# Altium schematic symbol library Monitait_V2.SCHLIB: 49 symbols
Pins are listed as number, name and electrical type; pins without a type are passive.

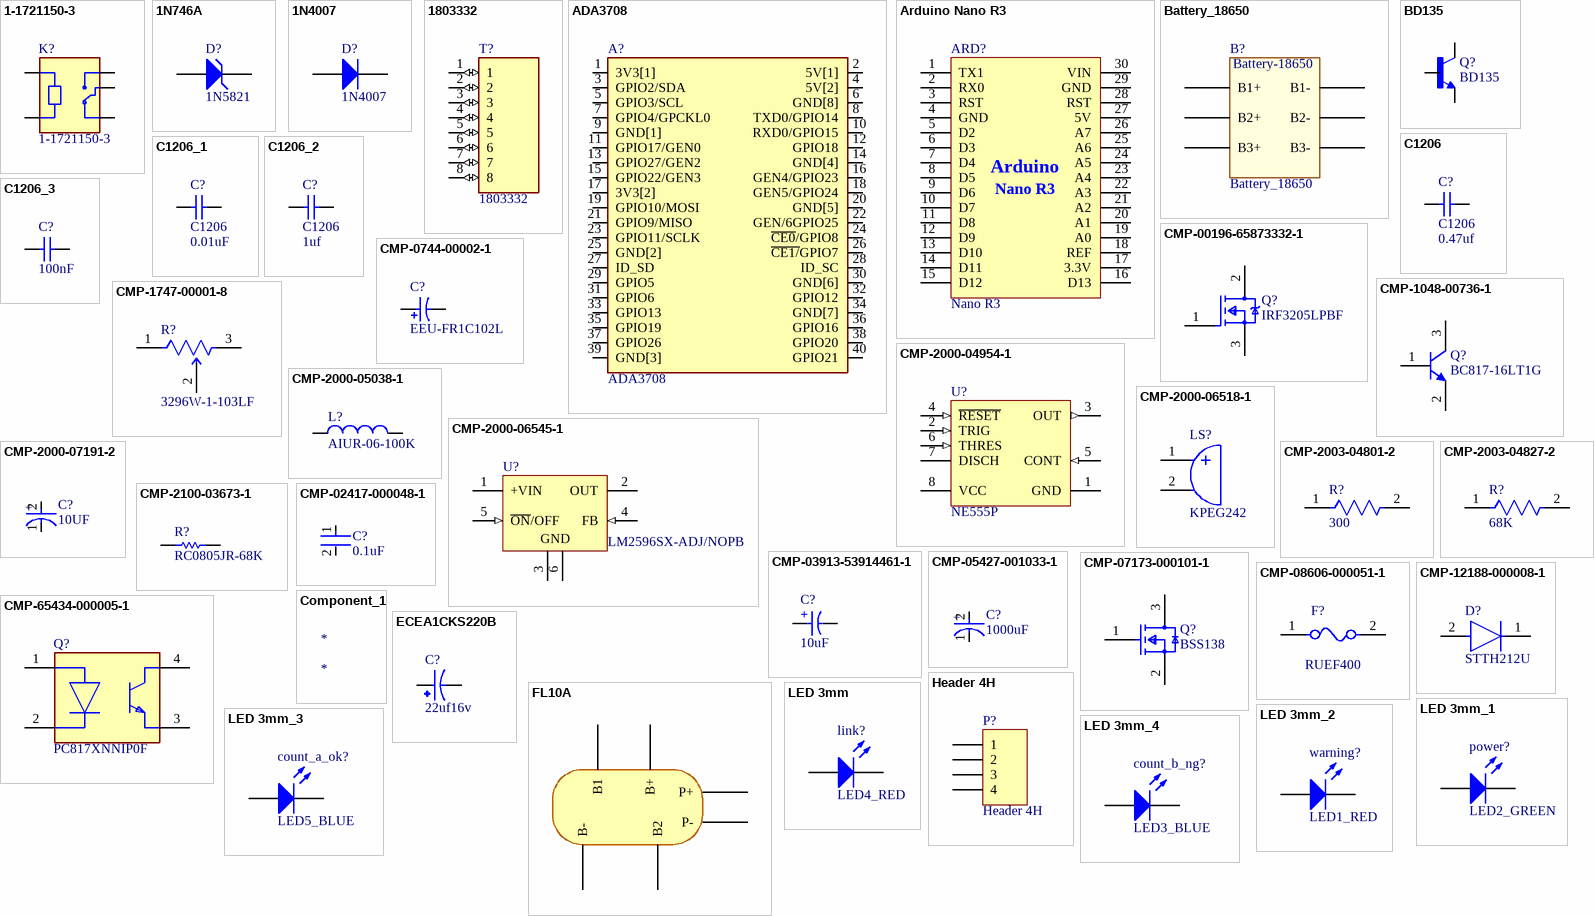
[diagram p0: symbols 1-1721150-3 to LED 3mm_4]

## 1-1721150-3
designator K?
ORWH Series Miniature PCB Relay with Wash Tight 1-Pole 1-Form C 1 CO 12 VDC 400 Ohm 360 mW Silver Zinc Oxide; Package: None; Availability: Unavailable; Value: *; MP: 1-1721150-3; Price: None
footprint RELAY_1-1721150-3
pins: A1, A2, COM, NC, NO

## 1N746A
designator D?, comment 1N5821
500 mW Hermetically Sealed Glass Silicon Zener Diode; Published: 29-Sep-2000; LatestRevisionDate: 17-Jul-2002; LatestRevisionNote: Re-released for DXP Platform.; PackageReference: 299-02; Publisher: Altium Limited; PackageDescription: Diode, Axial; Body 5.1 x 2.3 mm (LxDia. max), Lead Dia. 0.56 mm (max); Code_JEDEC: DO-204-AH; ComponentLink1Description: Manufacturer Link; ComponentLink1URL: http://www.onsemi.com/site/products/landing?taxonomyID=194
footprint 299-02 (Diode, Axial; Body 5.1 x 2.3 mm (LxDia. max), Lead Dia. 0.56 mm (max))
simulation model 1N746 (DIODE)
signal-integrity model 1N746A
pins: 1 A, 2 K

## 1N4007
designator D?
1 Amp Diode
footprint My_DO-41
pins: A, K

## 1803332
designator T?
8 Position Terminal Block Header, Male Pins, Shrouded (4 Side) 0.150 (3.81mm) 90Â°, Right Angle - Through Hole; MF: Phoenix Contact; Package: None; Price: None; Check_prices: https://www.snapeda.com/parts/1803332/Phoenix+Contact/view-part/?ref=eda; Value: *; SnapEDA_Link: https://www.snapeda.com/parts/1803332/Phoenix+Contact/view-part/?ref=snap; MP: 1803332; Availability: In Stock; Purchase-URL: https://pricing.snapeda.com/search?q=1803332&ref=eda
footprint SHDRRA8W83P0X381_1X8_3187X920X
pins: 1 (io), 2 (io), 3 (io), 4 (io), 5 (io), 6 (io), 7 (io), 8 (io)

## ADA3708
designator A?
Raspberry Pi Zero WH (Zero W with Headers); MP: ADA3708; Availability: Unavailable; Package: None; Value: *; Price: None
footprint ADA3708_RPI-ZERO
pins: 1 3V3[1] (power), 2 5V[1] (power), 3 GPIO2/SDA (io), 4 5V[2] (power), 5 GPIO3/SCL (io), 6 GND[8] (power), 7 GPIO4/GPCKL0 (io), 8 TXD0/GPIO14 (io), 9 GND[1] (power), 10 RXD0/GPIO15 (io), 11 GPIO17/GEN0 (io), 12 GPIO18 (io), 13 GPIO27/GEN2 (io), 14 GND[4] (power), 15 GPIO22/GEN3 (io), 16 GEN4/GPIO23 (io), 17 3V3[2] (power), 18 GEN5/GPIO24 (io), 19 GPIO10/MOSI (io), 20 GND[5] (power), 21 GPIO9/MISO (io), 22 GEN/6GPIO25 (io), 23 GPIO11/SCLK (io), 24 ~{CE0}/GPIO8 (io), 25 GND[2] (power), 26 ~{CE1/}GPIO7 (io), 27 ID_SD (io), 28 ID_SC (io), 29 GPIO5 (io), 30 GND[6] (power), 31 GPIO6 (io), 32 GPIO12 (io), 33 GPIO13 (io), 34 GND[7] (power), 35 GPIO19 (io), 36 GPIO16 (io), 37 GPIO26 (io), 38 GPIO20 (io), 39 GND[3] (power), 40 GPIO21 (io)

## Arduino Nano R3
designator ARD?, comment Nano R3
Arduino Nano R3
footprint Arduino_Nano_R3 (Arduino Nano R3, 30-Leads, Row Spacing 15.24mm, Pitch 2.54mm)
pins: 1 TX1, 2 RX0, 3 RST, 4 GND (power), 5 D2, 6 D3, 7 D4, 8 D5, 9 D6, 10 D7, 11 D8, 12 D9, 13 D10, 14 D11, 15 D12, 16 D13, 17 3.3V (power), 18 REF, 19 A0, 20 A1, 21 A2, 22 A3, 23 A4, 24 A5, 25 A6, 26 A7, 27 5V (power), 28 RST, 29 GND (power), 30 VIN (power)
text: Arduino

## Battery_18650
designator B?
footprint Battery-18650
pins: B1+, B1-, B2+, B2-, B3+, B3-
text: Battery-18650

## BD135
designator Q?
TRANSISTOR, NPN, TO-126; Transistor Polarity:NPN; Collector Emitter Voltage V(br)ceo:45V; Power Dissipation Pd:12.5W; DC Collector Current:1A; DC Current Gain hFE:40; Transistor Case Style:TO-126; No. of Pins:3; SVHC:No SVHC (18-Jun-2012); Collector Emitter Voltage Vces:500mV; Continuous Collector Current Ic Max:1A; Current Ic Continuous a Max:1A; Current Ic hFE:150mA; Full Power Rating Temperature:25Â°C; Hfe Min:40; No. of Transistors:1; Package / Case:TO-126; Power Dissipation Pd:12.5W; Power Dissipation Ptot Max:12.5W; Termination Type:Through Hole; Voltage Vcbo:45V; MF: ON Semiconductor; Availability: In Stock; SnapEDA_Link: https://www.snapeda.com/parts/BD135/Onsemi/view-part/?ref=snap; Price: None; Check_prices: https://www.snapeda.com/parts/BD135/Onsemi/view-part/?ref=eda; Package: TO-225-3 ON Semiconductor; MP: BD135; Value: *; Purchase-URL: https://pricing.snapeda.com/search/part/BD135/?ref=eda
footprint TO229P780X300X2000-3
pins: 1 E, 2 C, 3 B

## C1206
designator C?  value 0.47uf
Ceramic Chip Capacitor - Standard; Published: 17-Jul-2002; LatestRevisionDate: 19-Mar-2004; LatestRevisionNote: Silkscreen size reduced.; DatasheetDocument: Mar-2001; PackageDocument: Mar-2001; PackageReference: 1206; Publisher: Altium Limited; Code_JEITA: 1206; Code_IPC: 3216 [1206]; ComponentLink1Description: Manufacturer Link; ComponentLink1URL: http://www.kemet.com/; ComponentLink2Description: Datasheet; ComponentLink2URL: http://www.kemet.com/kemet/web/homepage/kechome.nsf/vapubfilesname/F3102TA.pdf/$file/F3102TA.pdf
footprint 1206 (Chip Capacitor; Body 3.2 x 1.6 mm (LxW typ))
simulation model CAP (Capacitor)
signal-integrity model C1206
pins: 1, 2

## C1206_1
designator C?, comment C1206  value 0.01uF
Ceramic Chip Capacitor - Standard; Published: 17-Jul-2002; LatestRevisionDate: 19-Mar-2004; LatestRevisionNote: Silkscreen size reduced.; DatasheetDocument: Mar-2001; PackageDocument: Mar-2001; PackageReference: 1206; Publisher: Altium Limited; Code_JEITA: 1206; Code_IPC: 3216 [1206]; ComponentLink1Description: Manufacturer Link; ComponentLink1URL: http://www.kemet.com/; ComponentLink2Description: Datasheet; ComponentLink2URL: http://www.kemet.com/kemet/web/homepage/kechome.nsf/vapubfilesname/F3102TA.pdf/$file/F3102TA.pdf
footprint 1206 (Chip Capacitor; Body 3.2 x 1.6 mm (LxW typ))
simulation model CAP (Capacitor)
signal-integrity model C1206
pins: 1, 2

## C1206_2
designator C?, comment C1206  value 1uf
Ceramic Chip Capacitor - Standard; Published: 17-Jul-2002; LatestRevisionDate: 19-Mar-2004; LatestRevisionNote: Silkscreen size reduced.; DatasheetDocument: Mar-2001; PackageDocument: Mar-2001; PackageReference: 1206; Publisher: Altium Limited; Code_JEITA: 1206; Code_IPC: 3216 [1206]; ComponentLink1Description: Manufacturer Link; ComponentLink1URL: http://www.kemet.com/; ComponentLink2Description: Datasheet; ComponentLink2URL: http://www.kemet.com/kemet/web/homepage/kechome.nsf/vapubfilesname/F3102TA.pdf/$file/F3102TA.pdf
footprint 1206 (Chip Capacitor; Body 3.2 x 1.6 mm (LxW typ))
simulation model CAP (Capacitor)
signal-integrity model C1206
pins: 1, 2

## C1206_3
designator C?, comment value 100nF  (hidden comment: C1206)
Ceramic Chip Capacitor - Standard; Published: 17-Jul-2002; LatestRevisionDate: 19-Mar-2004; LatestRevisionNote: Silkscreen size reduced.; DatasheetDocument: Mar-2001; PackageDocument: Mar-2001; PackageReference: 1206; Publisher: Altium Limited; Code_JEITA: 1206; Code_IPC: 3216 [1206]; ComponentLink1Description: Manufacturer Link; ComponentLink1URL: http://www.kemet.com/; ComponentLink2Description: Datasheet; ComponentLink2URL: http://www.kemet.com/kemet/web/homepage/kechome.nsf/vapubfilesname/F3102TA.pdf/$file/F3102TA.pdf
footprint 1206 (Chip Capacitor; Body 3.2 x 1.6 mm (LxW typ))
simulation model CAP (Capacitor)
signal-integrity model C1206
pins: 1, 2

## CMP-00196-65873332-1
designator Q?, comment IRF3205LPBF
IRF3205LPBF 55V Single N-Channel HEXFET Power MOSFET in a TO-262 package, TO262-3, RoHS; NexarPartId: 65873332; Manufacturer: Infineon; Max Junction Temperature (Tj): 175°C; Rise Time: 101ns; Threshold Voltage: 4V; Fall Time: 65ns; On-State Resistance: 8mΩ; Input Capacitance: 3.247nF; Max Power Dissipation: 200W; Turn-Off Delay Time: 50ns; Continuous Drain Current (ID): 110A; Turn-On Delay Time: 14ns; Gate to Source Voltage (Vgs): 20V; Number of Elements: 1; Width: 4.826mm; Length: 10.668mm; RoHS: Compliant; Max Operating Temperature: 175°C; Min Operating Temperature: -55°C; Package Quantity: 1000; Number of Pins: 3; Lifecycle Status: Production; Drain to Source Breakdown Voltage: 55V; Current Rating: 110A; Packaging: Bulk; Voltage Rating (DC): 55V; Height: 9.65mm; Radiation Hardening: No; Mount: Through Hole; Drain to Source Resistance: 8mΩ; Case/Package: TO-262; Lead Free: Contains Lead, Lead Free; Rds On Max: 8mΩ; REACH SVHC: No SVHC; Power Dissipation: 200W; Drain to Source Voltage (Vdss): 55V; Schedule B: 8541290080, 8541290080; Manufacturer Part Number: IRF3205LPBF
footprint FP-PG-TO262-3-MFG (Single N-Channel 100 V 23 mOhm 130 nC HEXFET® Power Mosfet - TO-262)
pins: 1 G, 2 D, 3 S

## CMP-0744-00002-1
designator C?, comment EEU-FR1C102L
Aluminum Electrolytic Capacitor, 1000 uF +/- 20%, 16 V, -40 to 105 degC, 2-Pin THD, Dia 8 mm, Body Length 22 mm, RoHS; Manufacturer: Panasonic; Rated Voltage: 16 V; Resistance: 0.03 Ohm; Tolerance: +/- 20%; Rated Ripple Current: 1560 mA; Capacitance: 1000 uF; ComponentLink2URL: http://www.panasonic.com/industrial/includes/pdf/EEU-FR_DataSheet.pdf; DatasheetVersion: Apr-10; Temperature Range: -40 to 105 degC; ComponentLink1Description: Manufacturer URL; ComponentLink1URL: http://www.panasonic.com/industrial/electronic-components/; PartNumber: EEU-FR1C102L; PackageDescription: 2-Pin Radial Lead, Dia 8 mm, Body Length 22 mm, Pin Spacing 3.5 mm; PackageReference: FR-A-8X20-2; Mounting Technology: Through Hole; RoHS: TRUE; ComponentLink2Description: Datasheet; Manufacturer Part Number: EEU-FR1C102L
footprint PNSC-FR-A-8X20-2_V (Radial Lead, 2-Leads, Dia 8mm, Body Length 22mm, Pin Spacing 3.5mm)
pins: 1, 2

## CMP-1048-00736-1
designator Q?, comment BC817-16LT1G
General Purpose Transistor, NPN Silicon, 3-Pin SOT-23, Pb-Free, Tape and Reel; Manufacturer: On Semiconductor; IC Continuous (A): 0.5; fT Min (MHz): 100; PartNumber: BC817-16LT1G; Mounting Technology: Surface Mount; PackageVersion: Rev. AP, 11/2009; ComponentLink3Description: Package Specification; PackageReference: SOT-23-3-318-08; Packing: Tape and Reel; ComponentLink1URL: http://www.onsemi.com/; Polarity: NPN; RoHS: TRUE; ComponentLink2URL: http://www.onsemi.com/pub_link/Collateral/BC817-16LT1-D.PDF; ComponentLink3URL: http://www.onsemi.cn/pub_link/Collateral/318-08.PDF; ComponentLink2Description: Datasheet; PackageDescription: 3-Pin Small Outline Transistor, Body 2.92 x 1.3 mm, Pitch 0.95 mm; ComponentLink1Description: Manufacturer URL; DatasheetVersion: Rev. 12; Manufacturer: ON Semiconductor; Manufacturer Part Number: BC817-16LT1G
footprint ONSC-SOT-23-3-318-08_V (SOT23, 3-Leads, Body 2.92x1.3mm, Pitch 0.95mm)
pins: 1 B, 2 E, 3 C

## CMP-1747-00001-8
designator R?, comment 3296W-1-103LF
TRIMMER 10K OHM 0.5W PC PIN TOP; Manufacturer: Bourns; Number of Turns: 25; Tolerance: 10%; Resistance: 10kR; Max Power Dissipation: 500mW; Temperature Coefficient: 100ppm/°C; Insulation Resistance: 1GR; Min Operating Temperature: -55°C; Resistor Type: Cermet; Series: 3296; Color: Blue; Mount: Through Hole; Taper: Linear; Radiation Hardening: No; RoHS Compliant: Yes; Width: 9.53mm; Resistance Tolerance: 10%; Contact Plating: Tin; Military Standard: Not; Package Quantity: 50; Weight: 0.03oz; Lead Free: Lead Free; Power Rating: 500mW; Termination: Pin; Technology: CERMET; Max Operating Temperature: 125°C; Packaging: Rail/Tube; Length: 9.53mm; Depth: 4.83mm; Height: 11.55mm; Reach SVHC Compliant: Yes; Manufacturer Part Number: 3296W-1-103LF
footprint FP-3296W-MFG
pins: 1 CCW, 2 WIPER, 3 CW

## CMP-2000-04954-1
designator U?, comment NE555P
Precision Timer, 4.5 to 16 V, 0 to 70 degC, 8-Pin DIP, Pb-Free, Tube; Manufacturer: TexasInstruments; Manufacturer: Texas Instruments; Maximum High Level Output Current: -200mA; Number of Internal Timers: 1; Operating Supply Voltage: 5; Maximum Low Level Output Current: 200mA; Rad Hard: No; Packaging: Rail/Tube; Manufacturer URL: http://www.ti.com/; Package Reference: P8; Package Description: 8-Pin Double In-line Package, Body 9.59 x 6.35 mm, Pitch 2.54 mm; Package URL: http://www.ti.com/lit/ml/mpdi001b/mpdi001b.pdf; Type: Standard; Datasheet URL: http://www.ti.com/general/docs/lit/getliterature.tsp?genericPartNumber=NE555&fileType=pdf; Category: Timer; Package: 8PDIP; Datasheet Version: Rev. I, 09/2014; Manufacturer Part Number: NE555P
footprint P0008A (DIP, 8-Leads, Body 10.15x6.6mm, Pitch 2.54mm)
pins: 1 GND (power), 2 TRIG (in), 3 OUT (out), 4 ~{RESET} (in), 5 CONT (in), 6 THRES (in), 7 DISCH (oc), 8 VCC (power)

## CMP-2000-05038-1
designator L?, comment AIUR-06-100K
Fixed Inductor, 10 uH, +/- 10%, -40 to 85 degC, 2-Pin THD, RoHS, Bulk; Manufacturer: ABRACON; Case Length: 18mm; Type: ThruHolePowerInductor; Inductance: 10uH; Case Diameter: 12.7mm; Maximum DC Resistance: 0.031Ohms; Core Material: Ferrite; Shielding: Unshielded; Maximum DC Current: 8.8A; Lead Diameter: 0.81mm; Package / Case: 12.7mmx18mm; Packaging: Bulk; Series: AIUR-06; Package Reference: AIUR-06; RoHS: Details; Tolerance: 10%; Product: PowerInductors; Manufacturer URL: http://www.abracon.com/; Package Description: 2-Pin Through Hole Device, Dia 12.7 mm, Pitch 7.37 mm; Factory Pack Quantity: 250; Product Category: FixedInductors; Datasheet URL: http://www.abracon.com/Magnetics/radial/AIUR05-06.pdf; Brand: ABRACON; Operating Temperature Range: -40Cto+125C; Lead Spacing: 7.37mm; Termination Style: Radial; Datasheet Version: Rev. 1.1, 08/2004; Manufacturer: Abracon; Manufacturer Part Number: AIUR-06-100K
footprint ABRA-AIUR-06-2_V (Through Hole, 2-Leads, Dia 12.7mm)
pins: 1, 2

## CMP-2000-06518-1
designator LS?, comment KPEG242
Piezo Indicator, 4100 Hz, 3 to 16 V, -20 to 70 degC, 2-Pin THD, RoHS; PartNumber: KPE-242; Manufacturer: KingstateElectronicsCorp.; Manufacturer: Kingstate; Frequency Range: 3600to4600Hz; Maximum Supply Current: 7mA; Typical Operating Supply Voltage: 12Vdc; Product Height: 7.6mm; Current - Max: 7A; Tone Mode: Continuous; Product Diameter: 13.7mm; Minimum Sound Pressure: 70dBA; Maximum Resonant Frequency: 4600Hz; Type: Indicator; Datasheet URL: https://datasheet.ciiva.com/11776/0900766b8068f3a2-11776713.pdf; Mounting: ThroughHole; Technology: Piezo; Operating Temperature: -20to70°C; Category: AudioIndicatorsandAlerts; Termination Method: Pin; Manufacturer URL: http://www.kingstate.com.tw/index.php/en/; Package Description: 2-Pin Through Hole Device, Body Dia 13.7 mm, Pitch 7.62 mm; Datasheet Version: 01/2006; Package Reference: KPEG242; Mounting Technology: ThroughHole; Manufacturer Part Number: KPEG242
footprint KINGS-KPEG242-2 (THD, 2-Leads, Dia 13.7mm, Pitch 7.62mm)
pins: 1, 2

## CMP-2000-06545-1
designator U?, comment LM2596SX-ADJ/NOPB
Simple Switcher(R) Power Converter 150 kHz Step-Down Voltage Regulator, 3 A, 4.5 to 40 V, -40 to 125 degC, 5-Pin TO-263 (KTT), Green (RoHS & no Sb/Br), Tape and Reel; PartNumber: LM2596; Manufacturer: Texas Instruments; Manufacturer: TI National Semiconductor; Package Version: 4200577-4/G, 01/2013; Primary Input Voltage: 40V; No. of Outputs: 1; No. of Pins: 5; SVHC: NoSVHC(19-Dec-2012); Output Voltage: 37V; Output Current: 3A; Datasheet Version: Rev. C, 04/2013; Package Reference: KTT5; MSL: MSL3-168hours; Number of Outputs: 1; Operating Temperature Min: -40°C; Operating Temperature Range: -40°Cto+125°C; Manufacturer URL: http://www.ti.com/; Package URL: http://www.ti.com/litv/pdf/mpsf007e; Voltage Regulator Case Style: TO-263; Operating Temperature Max: 125°C; Package Description: 5-Pin Plastic Flange Mount, Body 10.16 x 8.925 mm, Pitch 1.7 mm; Datasheet URL: http://www.ti.com/lit/ds/symlink/lm2596.pdf; Mounting Technology: SurfaceMount; Manufacturer Part Number: LM2596SX-ADJ/NOPB
footprint KTT0005B_L (DPAK, 5-Leads, Body 10.65x9.65mm, Pitch 1.7mm, IPC High Density)
footprint KTT0005B_M (DPAK, 5-Leads, Body 10.65x9.65mm, Pitch 1.7mm, IPC Low Density)
footprint KTT0005B_N (DPAK, 5-Leads, Body 10.65x9.65mm, Pitch 1.7mm, IPC Medium Density)
pins: 1 +VIN (power) "This is the positive input supply for the IC switching regulator. A suitable input bypass +VIN capacitor must be present at this pin to minimize voltage transients and to supply the switching currents needed by the regulator.", 2 OUT (power) "Internal switch. The voltage at this pin switches between (+VIN - VSAT) and approximately -0.5V, with a duty cycle of approximately VOUT/VIN. To minimize coupling to sensitive circuitry, the PC board copper a(See Datasheet)", 3 GND (power) "Circuit ground.", 4 FB (in) "Senses the regulated output voltage to complete the feedback loop.", 5 ~{ON}/OFF (in) "Allows the switching regulator circuit to be shut down using logic level signals thus dropping the total input supply current to approximately 80 uA. Pulling this pin below a threshold voltage of approximately 1.3V turns the (See Datasheet)", 6 GND (power)

## CMP-2000-07191-2
designator C?, comment 10UF
CAP TANT 10UF 10% 20V 1411; Manufacturer: KEMET; Manufacturer Part Number: T491B106K020AT; Polarity: Polar; Life (Hours): 2000Hour; Dissipation Factor: 6%; Leakage Current: 2uA; Dielectric Material: Tantalum; Ripple Current: 201mA; ESR (Equivalent Series Resistance): 2.1R; Weight: 0.002293oz; Max Operating Temperature: 125°C; Failure Rate: 0.001%; Tolerance: 10%; Case Code (Metric): 3528; Case Code (Imperial): 1411; Number of Pins: 2; Case/Package: 1411; Width: 2.8mm; Height: 1.9mm; Voltage Rating: 20V; Voltage: 20V; Lead Free: Lead Free; Features: General Purpose; Radiation Hardening: No; Min Operating Temperature: -55°C; Length: 3.5mm; Mount: Surface Mount; Depth: 2.8mm; Voltage Rating (DC): 20V; Termination: SMD/SMT; Package Quantity: 1; Capacitance: 10uF; Packaging: Tape and Reel; RoHS Compliant: Yes; REACH SVHC: No SVHC; Height - Seated (Max): 0.083inch
footprint FP-T491B106K020AT-MFG
pins: 1 C, 2 A
text: +

## CMP-2003-04801-2
designator R?, comment 300
RES Thick Film, 100Ω, 1%, 0.25W, 100ppm/°C, 1206; Manufacturer: Vishay Dale; Manufacturer Part Number: CRCW1206100RFKEA; Voltage Rating (DC): 200V; Resistance: 100R; Power Rating: 250mW; Case Code (Metric): 3216; Radiation Hardening: No; Height: 0.55mm; Packaging: Tape and Reel; Depth: 1.6mm; Weight: 0.000353oz; Termination: SMD/SMT; Lead Free: Lead Free; Min Operating Temperature: -55°C; Contact Plating: Tin; Max Operating Temperature: 155°C; Case Code (Imperial): 1206; Military Standard: Not; Width: 1.6mm; Number of Pins: 2; Voltage Rating: 200V; Composition: Thick Film; Package Quantity: 5000; Tolerance: 1%; Case/Package: 1206; Mount: Surface Mount; Length: 3.2mm; Temperature Coefficient: 100ppm/°C
footprint FP-CRCW1206-e3-MFG
footprint FP-CRCW1206-e3-IPC_C
footprint FP-CRCW1206-e3-IPC_B
footprint FP-CRCW1206-e3-IPC_A
pins: 1, 2

## CMP-2003-04827-2
designator R?, comment 68K
RES Thick Film, 118kΩ, 1%, 0.25W, 100ppm/°C, 1206; Manufacturer: Vishay; Manufacturer Part Number: CRCW1206118KFKEA; Resistance: 118kR; Max Power Dissipation: 250mW; Voltage Rating: 200V; Number of Pins: 2; Radiation Hardening: No; Tolerance: 1%; Case Code (Imperial): 1206; Lead Free: Lead Free; Depth: 1.6mm; Packaging: Tape and Reel; Features: Automotive AEC-Q200; Width: 0.063inch; Package Quantity: 10; Power Rating: 250mW; Length: 3.2mm; Composition: Thick Film; Contact Plating: Tin; Number of Terminations: 2; Temperature Coefficient: 100ppm/°C; Case/Package: 1206; Military Standard: Not; Case Code (Metric): 3216; Weight: 0.000353oz; Max Operating Temperature: 155°C; Voltage Rating (DC): 200V; Height: 0.024inch; Termination: SMD/SMT; Min Operating Temperature: -55°C
footprint FP-CRCW1206-e3-IPC_C
footprint FP-CRCW1206-e3-IPC_B
footprint FP-CRCW1206-e3-MFG
footprint FP-CRCW1206-e3-IPC_A
pins: 1, 2

## CMP-2100-03673-1
designator R?, comment RC0805JR-68K
Chip Resistor, 0 Ohm, Jumper, +/- 5%, 0.125 W, -55 to 155 degC, 0805 (2012 Metric), RoHS, Tape and Reel; Manufacturer: Yageo; Manufacturer Part Number: RC0805JR-070RL; Power Rating: 125mW; Resistance: 0mOhm; Voltage Rating (DC): 150V; Temperature Coefficient: 200ppm/degreesC; Height: 0.5mm; Depth: 1.25mm; Case Code (Imperial): 0805; Lead Free: LeadFree; Military Standard: Not; Package Description: 2-Pin Surface Mounted Device, Body 2 x 1.25 mm; Case Code (Metric): 2012; Composition: ThickFilm; Voltage Rating: 150V; Manufacturer URL: http://www.yageo.com/; Packaging: TapeandReel; Package Reference: 0805; REACH SVHC: Unknown; Tolerance: 5%; Case/Package: 0805; Max Operating Temperature: 155degC; Number of Pins: 2; Min Operating Temperature: -55degC; RoHSCompliant: true; Length: 2mm; Datasheet URL: http://www.yageo.com/NewPortal/yageodocoutput?fileName=/pdf/R-Chip/PYu-RC_Group_51_RoHS_L_5.pdf; Termination: SMD/SMT; Radiation Hardening: No; Width: 1.25mm; Contact Plating: Tin; Datasheet Version: Rev. 5, 10/2016
footprint RESC2013X60X35ML10T20 (Chip Resistor, 2-Leads, Body 2.1x1.35mm, IPC Low Density)
footprint RESC2013X60X35NL10T20 (Chip Resistor, 2-Leads, Body 2.1x1.35mm, IPC Medium Density)
footprint RESC2013X60X35LL10T20 (Chip Resistor, 2-Leads, Body 2.00x1.25mm, IPC High Density)
pins: 1, 2

## CMP-02417-000048-1
designator C?, comment 0.1uF
CAP CER 0.1UF 50V X7R RADIAL; Manufacturer: Vishay BCcomponents; Manufacturer Part Number: K104K15X7RF53H5; Capacitance: 100nF; Tolerance: 10%; Lead/Base Style: Formed Leads; Lead Length: 30mm; Lead Diameter: 0.5mm; Radiation Hardening: No; Lead Pitch: 5mm; Voltage: 50V; Mount: Through Hole; Package Quantity: 5000; Series: K; Case/Package: Dipped; Min Operating Temperature: -55°C; Depth: 2.5mm; Height - Seated (Max): 0.1inch; Voltage Rating (DC): 50V; Packaging: Bulk; RoHS Compliant: Yes; Construction: RADIAL; Thickness: 2.6mm; Max Operating Temperature: 125°C; Voltage Rating: 50V; Diameter: 500um; Dielectric: X7R; Width: 2.5mm; Length: 4mm; Weight: 0.005644oz; Termination: Radial; Height: 4mm
footprint FP-K15H5-MFG
pins: 1, 2

## CMP-03913-53914461-1
designator C?, comment 10uF
860160574013 WCAP-ATLL Aluminum Electrolytic Capacitors; NexarPartId: 53914461; Manufacturer: Wurth Electronics; Pitch: 3.5mm; Ripple Current: 414mA; Voltage Rating (DC): 35V; Tolerance: 20%; Life (Hours): 7000hours; Capacitance: 100µF; Material: Aluminium; Leakage Current: 35µA; Length: 11.5mm; Case/Package: Radial; Min Operating Temperature: -55°C; Max Operating Temperature: 105°C; REACH SVHC: Unknown; Height: 11.5mm; RoHS: Non-Compliant; Diameter: 8mm; Voltage Rating: 35V; Lead Pitch: 3.5mm; Manufacturer Part Number: 860160574013
footprint WCAP-ATLL_D8H11.5 (Aluminium Electrolytic Capacitor-Leaded Rohs Compliant: Yes)
pins: 1 P, 2 N
text: +

## CMP-05427-001033-1
designator C?, comment 1000uF
Aluminum Electrolytic Capacitors (Radial Lead Type) 1000uF ±20% 10V; Manufacturer: Panasonic; Manufacturer Part Number: EEU-FR1A102L; Ripple Current: 1.24A; Impedance: 41mR; Capacitance: 1mF; Lead Diameter: 0.6mm; Lead/Base Style: Straight; Life (Hours): 8000Hour; Dissipation Factor: 0.19%; Min Operating Temperature: -40°C; Height - Seated (Max): 0.65inch; Packaging: Bulk; Lead Pitch: 3.5mm; Max Operating Temperature: 105°C; Ripple Current (AC): 1.24A; ESR (Equivalent Series Resistance): 41mR; Construction: RADIAL; Voltage Rating: 10V; Voltage: 10V; Mount: Through Hole; Radiation Hardening: No; Termination: Radial; RoHS Compliant: Yes; Length: 15mm; REACH SVHC: No SVHC; Tolerance: 20%; Case/Package: Radial; Contact Plating: Tin; Height: 15mm; Series: FR; Diameter: 8mm; Voltage Rating (DC): 10V; Package Quantity: 200; Number of Pins: 2
footprint FP-RAD-TH-D_8_0_5-L_15_1-MFG
pins: 1 C, 2 A
text: +

## CMP-07173-000101-1
designator Q?, comment BSS138
MOSFET N-CH 50V 220MA SOT-23; Manufacturer: ON Semiconductor / Fairchild; Turn-Off Delay Time: 20ns; Element Configuration: Single; Rds On Max: 3.5R; Gate to Source Voltage (Vgs): 20V; Threshold Voltage: 1.3V; Number of Elements: 1; Power Dissipation: 360mW; Rise Time: 9ns; Turn-On Delay Time: 2.5ns; Input Capacitance: 27pF; On-State Resistance: 6R; Lead Free: Lead Free; Length: 2.92mm; Width: 1.3mm; Drain to Source Breakdown Voltage: 50V; Min Operating Temperature: -55°C; REACH SVHC: No SVHC; Packaging: Tape and Reel; Radiation Hardening: No; Height: 0.93mm; Drain to Source Voltage (Vdss): 50V; Current Rating: 220mA; Voltage Rating (DC): 50V; Weight: 0.03g; Continuous Drain Current (ID): 220mA; Number of Pins: 3; Nominal Vgs: 1.3V; Max Power Dissipation: 360mW; Fall Time: 9ns; Drain to Source Resistance: 3.5R; Contact Plating: Tin; Case/Package: SOT-23; Package Quantity: 1; Dual Supply Voltage: 50V; Mount: Surface Mount; Termination: SMD/SMT; Max Operating Temperature: 150°C; Manufacturer Part Number: BSS138
footprint FP-318-08-IPC_B
footprint FP-318-08-MFG
footprint FP-318-08-IPC_A
footprint FP-318-08-IPC_C
pins: 1 G, 2 S, 3 D

## CMP-08606-000051-1
designator F?, comment RUEF400
PTC RESET FUSE 30V 4A RADIAL; Manufacturer: Littelfuse; Current Rating: 100A; Resistance: 0.01-0.05Ω; Trip Time: 12.7s; Trip Current: 8A; Value: 0.01-0.05Ω; Hold Current: 4A; Ambient Temperature Range Low: -40°C; Temperature Range Low: -40°C; Temperature Range High: +85°C; Lead Free: Yes; ComponentLink2URL: https://www.littelfuse.com/~/media/electronics/datasheets/resettable_ptcs/littelfuse_ptc_radial_leaded_ruef_datasheet.pdf.pdf; Temperature: -40°C to +85°C; Device Class L1: Circuit Protection; Voltage Rating: 30V; Ambient Temperature Range High: +85°C; Digikey Description: PTC RESET FUSE 30V 4A RADIAL; RoHS: TRUE; Automotive: No; Category: Fuse; Mouser Description: PTC Resettable Fuse 4A(hold) 8A(trip) 30V 100A 2.5W 12.7s 0.01Ohm Radial 14 X 3 X 19.3mm Bag; Device Class L2: PTC Resettable Fuses; Package: RUEF400; Height: 19.3mm; Device Class L3: unset; ComponentLink2Description: Datasheet; Octopart: https://octopart.com/ruef400-littelfuse-74215791; Manufacturer Part Number: RUEF400
footprint FP-RUEF400-MFG
pins: 1, 2

## CMP-12188-000008-1
designator D?, comment STTH212U
DIODE GEN PURP 1.2KV 2A SMB; Manufacturer: STMicroelectronics; Max Junction Temp: +175°C; Max Repetitive Reverse Voltage: 1200V; Peak Reverse Current: 10uA; Standoff Height: 0.05mm; Max Surge Forward Current: 40A; ComponentLink2URL: https://www.st.com/resource/en/datasheet/stth212.pdf; Device Class L2: Diodes; Digikey Description: DIODE GEN PURP 1.2KV 2A SMB; Mouser Description: Rectifiers high voltage diode; Device Class L1: Discrete Semiconductors; Temperature Range High: +175°C; Manufacturer Part Number: STTH212U; Package: SMB; Height: 2.65mm; ComponentLink2Description: Datasheet; Category: Diode; Device Class L3: Rectifier Diodes; Automotive: No; RoHS: TRUE; Octopart: https://octopart.com/stth212u-stmicroelectronics-658227; Forward Current: 2A; Temperature: to +175°C; Lead Free: Yes
footprint FP-SMB-MFG
pins: 1 K, 2 A

## CMP-65434-000005-1
designator Q?, comment PC817XNNIP0F
OPTOISOLATOR 5KV TRANS 4SMD; Manufacturer: Sharp; Reverse Breakdown Voltage: 6V; Output Current per Channel: 30mA; Power Dissipation: 200mW; Collector-emitter Voltage-Max: 200mV; Max Output Voltage: 80V; Input Current: 50mA; Forward Voltage: 1.4V; Fall Time: 18000ns; Number of Elements: 1; Input Type: DC; Packaging: Tape and Reel; RoHS Compliant: Yes; Contact Plating: Copper; Min Operating Temperature: -30°C; Collector Emitter Saturation Voltage: 200mV; Max Input Current: 50mA; Radiation Hardening: No; Max Collector Current: 50mA; Case/Package: SMD/SMT; Mount: Surface Mount; Output Voltage: 80V; Forward Current: 50mA; Max Power Dissipation: 200mW; Collector Emitter Voltage (VCEO): 80V; Number of Channels: 1; Rise Time: 18000ns; Isolation Voltage: 5kV; Number of Pins: 4; Lead Free: Lead Free; Package Quantity: 2000; Isolation Voltage-Max: 5kV; Max Operating Temperature: 100°C; Manufacturer Part Number: PC817XNNIP0F
footprint FP-PC817XNNIP0F-MFG
pins: 1 A, 2 C, 3 E, 4 C

## Component_1
designator *

## ECEA1CKS220B
designator C?, comment 22uf16v
CAP ALUM 22UF 20% 16V RADIAL; MF: Panasonic; MP: ECE-A1CKS220B; Package: RADIAL-2 Panasonic; Price: None; Check_prices: https://www.snapeda.com/parts/ECE-A1CKS220B/Panasonic/view-part/2340841/?ref=eda; Value: *; SnapEDA_Link: https://www.snapeda.com/parts/ECE-A1CKS220B/Panasonic/view-part/2340841/?ref=snap; Availability: In Stock
footprint CAPPRD500W45D500H500
pins: N, P

## FL10A
designator M?  (value not drawn)
footprint FL10A
pins: B1, B2, B+, B-, P+, P-

## Header 4H
designator P?
Header, 4-Pin, Right Angle; LatestRevisionDate: 17-Jul-2002; LatestRevisionNote: Re-released for DXP Platform.; Publisher: Altium Limited
footprint HDR1X4H (Connector; Header; 4 Position; Right Angle)
signal-integrity model Connector
pins: 1, 2, 3, 4

## LED 3mm
designator link?, comment LED4_RED
Typical LED; Designer: Seyed Mohsen Ghasemian; Published: 02/04/2012; PackageReference: LED; Publisher: www.picpars.com; PackageDescription: LED; 2 Leads
footprint LED-3mm (LED; 2 Leads)
pins: 1 A, 2 K

## LED 3mm_1
designator power?, comment LED2_GREEN
Typical LED; Designer: Seyed Mohsen Ghasemian; Published: 02/04/2012; PackageReference: LED; Publisher: www.picpars.com; PackageDescription: LED; 2 Leads
footprint LED-3mm (LED; 2 Leads)
pins: 1 A, 2 K

## LED 3mm_2
designator warning?, comment LED1_RED
Typical LED; Designer: Seyed Mohsen Ghasemian; Published: 02/04/2012; PackageReference: LED; Publisher: www.picpars.com; PackageDescription: LED; 2 Leads
footprint LED-3mm (LED; 2 Leads)
pins: 1 A, 2 K

## LED 3mm_3
designator count_a_ok?, comment LED5_BLUE
Typical LED; Designer: Seyed Mohsen Ghasemian; Published: 02/04/2012; PackageReference: LED; Publisher: www.picpars.com; PackageDescription: LED; 2 Leads
footprint LED-3mm (LED; 2 Leads)
pins: 1 A, 2 K

## LED 3mm_4
designator count_b_ng?, comment LED3_BLUE
Typical LED; Designer: Seyed Mohsen Ghasemian; Published: 02/04/2012; PackageReference: LED; Publisher: www.picpars.com; PackageDescription: LED; 2 Leads
footprint LED-3mm (LED; 2 Leads)
pins: 1 A, 2 K

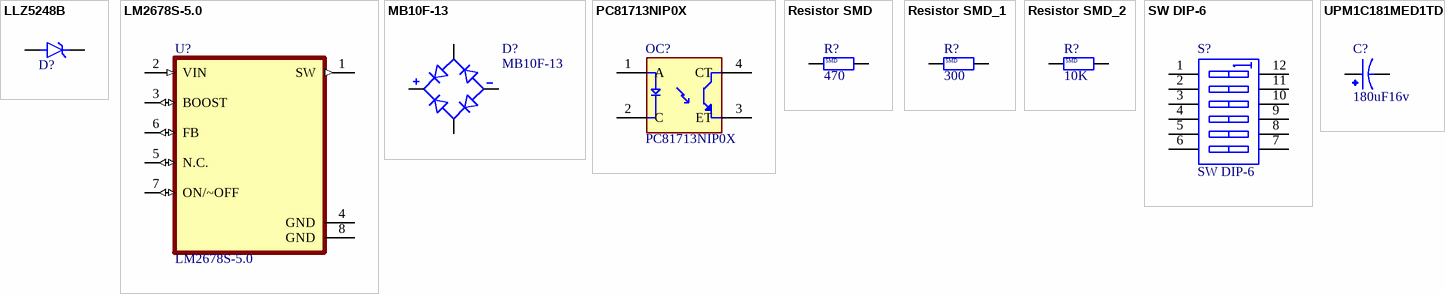
[diagram p1: symbols LLZ5248B to UPM1C181MED1TD]

## LLZ5248B
designator D?  (value not drawn)
Zener Diode Single 18V 5% 21Ohm 500mW 2-Pin Mini-MELF; MF: Taiwan Semiconductor; Price: None; Package: MINI MELF-2-2 Taiwan Semiconductor; MP: LLZ5248B; Availability: Not in stock; SnapEDA_Link: https://www.snapeda.com/parts/LLZ5248B/Taiwan+Semiconductor/view-part/?ref=snap; Check_prices: https://www.snapeda.com/parts/LLZ5248B/Taiwan+Semiconductor/view-part/?ref=eda; Value: *
footprint DIOMELF3515N
pins: A, C K

## LM2678S-5.0
designator U?
8V to 40V, 5A SIMPLE SWITCHER buck converter with high efficiency 7-DDPAK/TO-263 -40 to 125; MF: Texas Instruments; Purchase-URL: https://pricing.snapeda.com/search/part/LM2678S-5.0/?ref=eda; Value: *; MP: LM2678S-5.0; Package: TO-263-7 Texas Instruments; Price: None; SnapEDA_Link: https://www.snapeda.com/parts/LM2678S-5.0/Texas%20Instruments/view-part/15037/?ref=snap; Availability: Warning
footprint TO127P1435X464-8N
pins: 1 SW (out), 2 VIN (in), 3 BOOST (io), 4 GND (power), 5 N.C. (io), 6 FB (io), 7 ON/~OFF (io), 8 GND (power)

## MB10F-13
designator D?
Bridge Rectifier Single Phase Standard 1 kV Surface Mount MBF; MF: Diodes Inc.; Check_prices: https://www.snapeda.com/parts/MB10F-13/Diodes+Inc./view-part/?ref=eda; Value: *; Availability: In Stock; MP: MB10F-13; Price: None; Package: SMD-4 Diodes Inc.; SnapEDA_Link: https://www.snapeda.com/parts/MB10F-13/Diodes+Inc./view-part/?ref=snap; Purchase-URL: https://pricing.snapeda.com/search/part/MB10F-13/?ref=eda
footprint DIOB_MB10F-13
pins: 1 POS, 2 AC1, 3 NEG, 4 AC2

## PC81713NIP0X
designator OC?
Optoisolator Transistor Output 5000Vrms 1 Channel 4-SMD; MF: SHARP/Socle Technology; MP: PC81713NIP0X; Purchase-URL: https://pricing.snapeda.com/search/part/PC81713NIP0X/?ref=eda; SnapEDA_Link: https://www.snapeda.com/parts/PC81713NIP0X/SHARP%252FSocle+Technology/view-part/?ref=snap; Package: SMD-4 SOCLE Technology; Availability: In Stock; Check_prices: https://www.snapeda.com/parts/PC81713NIP0X/SHARP%252FSocle+Technology/view-part/?ref=eda; Value: *; Price: None
footprint SOT254P1025X400-4N
pins: 1 A, 2 C, 3 ET, 4 CT

## Resistor SMD
designator R?, comment 470
Resistor; Published: 8-Jun-2000; LatestRevisionDate: 17-Jul-2002; LatestRevisionNote: Re-released for DXP Platform.; PackageReference: AXIAL-0.4; Publisher: Altium Limited; PackageDescription: Axial Device, Thru-Hole; 2 Leads; 0.4 in Pin Spacing; Value: 470
footprint RES 0805 (2012X06L) (Chip Resistor, 2-Leads, Body 2.0x1.3mm, IPC High Density _ (0.100 W))
footprint 1206 (Chip Capacitor; Body 3.2 x 1.6 mm (LxW typ))
footprint SMD-0603
footprint SMD-0402 (Chip Capacitor, Body 1.0x0.5mm, IPC High Density)
footprint SMD-1210 (Chip Resistor, Body 3.2x2.5mm, IPC High Density)
footprint SMD-2512 (Chip Resistor, Body 3.2x2.5mm, IPC High Density)
footprint MELF0204
pins: 1, 2
text: SMD

## Resistor SMD_1
designator R?, comment 300
Resistor; Published: 8-Jun-2000; LatestRevisionDate: 17-Jul-2002; LatestRevisionNote: Re-released for DXP Platform.; PackageReference: AXIAL-0.4; Publisher: Altium Limited; PackageDescription: Axial Device, Thru-Hole; 2 Leads; 0.4 in Pin Spacing; Value: 300
footprint RES 0805 (2012X06L) (Chip Resistor, 2-Leads, Body 2.0x1.3mm, IPC High Density _ (0.100 W))
footprint 1206 (Chip Capacitor; Body 3.2 x 1.6 mm (LxW typ))
footprint SMD-0603
footprint SMD-0402 (Chip Capacitor, Body 1.0x0.5mm, IPC High Density)
footprint SMD-1210 (Chip Resistor, Body 3.2x2.5mm, IPC High Density)
footprint SMD-2512 (Chip Resistor, Body 3.2x2.5mm, IPC High Density)
footprint MELF0204
pins: 1, 2
text: SMD

## Resistor SMD_2
designator R?, comment 10K
Resistor; Published: 8-Jun-2000; LatestRevisionDate: 17-Jul-2002; LatestRevisionNote: Re-released for DXP Platform.; PackageReference: AXIAL-0.4; Publisher: Altium Limited; PackageDescription: Axial Device, Thru-Hole; 2 Leads; 0.4 in Pin Spacing; Value: 10K
footprint RES 0805 (2012X06L) (Chip Resistor, 2-Leads, Body 2.0x1.3mm, IPC High Density _ (0.100 W))
footprint 1206 (Chip Capacitor; Body 3.2 x 1.6 mm (LxW typ))
footprint SMD-0603
footprint SMD-0402 (Chip Capacitor, Body 1.0x0.5mm, IPC High Density)
footprint SMD-1210 (Chip Resistor, Body 3.2x2.5mm, IPC High Density)
footprint SMD-2512 (Chip Resistor, Body 3.2x2.5mm, IPC High Density)
footprint MELF0204
pins: 1, 2
text: SMD

## SW DIP-6
designator S?
DIP Switch, 6 Position, SPST; Published: 24-Mar-1999; LatestRevisionDate: 17-Jul-2002; LatestRevisionNote: Re-released for DXP Platform.; PackageReference: DIP-12/SW; Publisher: Altium Limited; PackageDescription: DIP Switch; 12 Leads
footprint DIP-12/SW (DIP Switch; 12 Leads)
simulation model dpsw6 (Spice Subcircuit)
pins: 1 A1, 2 A2, 3 A3, 4 A4, 5 A5, 6 A6, 7 B6, 8 B5, 9 B4, 10 B3, 11 B2, 12 B1

## UPM1C181MED1TD
designator C?, comment 180uF16v
Cap Aluminum Lytic 180uF 16V 20% (6.3 X 15mm) Radial 2.5mm 285mA 2000h 105Â°C Ammo; MF: Nichicon; MP: UPM1C181MED1TD; SnapEDA_Link: https://www.snapeda.com/parts/UPM1C181MED1TD/Nichicon/view-part/?ref=snap; Package: None; Value: *; Check_prices: https://www.snapeda.com/parts/UPM1C181MED1TD/Nichicon/view-part/?ref=eda
footprint CAPPRD250W50D630H1650
pins: N, P